# EAGLE library part USB-MINIB-SMT (library Connector)
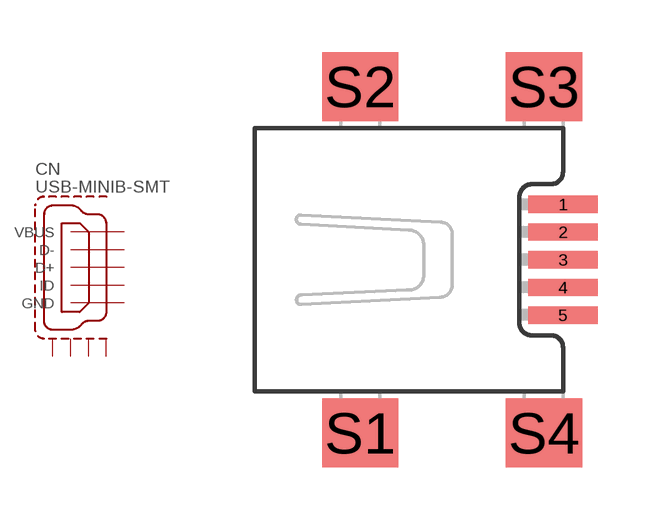
[diagram p0: symbol with the pads of USB-MINIB-SMT; footprint USB-MINIB-SMT]

Designator prefix CN

## USB-MINIB-SMT  [USB-MINIB-SMT]
1  VBUS  pas
2  D-  pas
3  D+  pas
4  ID  pas
5  GND  pas
S1  S1  pas
S2  S2  pas
S3  S3  pas
S4  S4  pas

## Footprint USB-MINIB-SMT (pad centres in mm)
smd 2 x 0.5: 1 2.55,1.6; 2 2.55,0.8; 3 2.55,0; 4 2.55,-0.8; 5 2.55,-1.6
smd 2.2 x 2: S1 -3.3,-5; S2 -3.3,5; S3 2,5; S4 2,-5